# Altium footprint library IVV_Lib.PcbLib: 16 footprints
Each footprint in its own frame and in the unit in brackets; x right, y up, seen from the top. Pads: shape width x height; smd on the part's side, far side on the other; paste and mask are expansions set on the pad; w line width, h text height; cw(c..) or ccw(c..) is an arc to the next point about the centre after c.
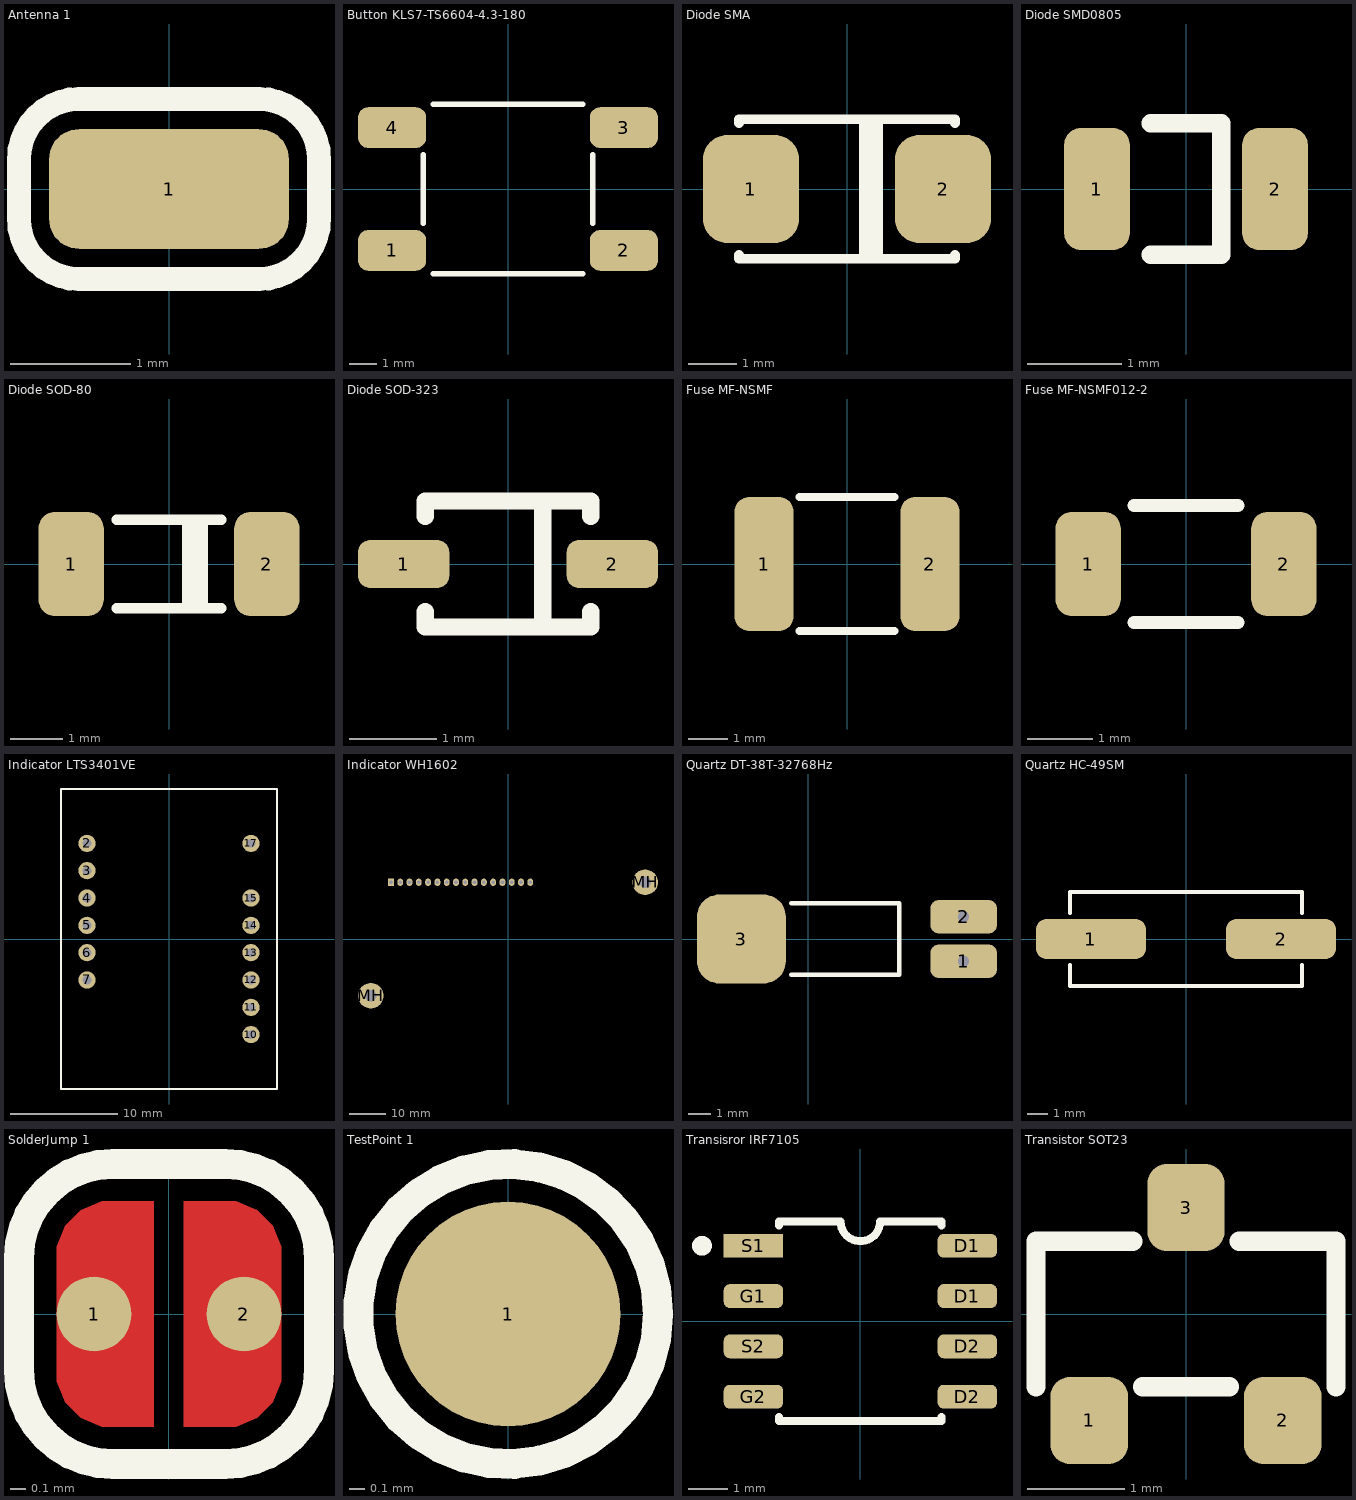
[diagram p0: the footprints below, top view; thin cyan lines are the x and y axes]

## Antenna 1 [mm]
pads (1):
  rrect50% 2x1 smd mask+0.075: 1(0,0)
Top Overlay:
  lines w0.2: -1.25,-0.25 ccw(c-0.75,-0.25) -0.75,-0.75 0.75,-0.75 ccw(c0.75,-0.25) 1.25,-0.25 1.25,0.25 ccw(c0.75,0.25) 0.75,0.75 -0.75,0.75 ccw(c-0.75,0.25) -1.25,0.25 -1.25,-0.25

## Button KLS7-TS6604-4.3-180 [mm]
pads (4):
  rrect50% 2.5x1.5 smd mask+0.075: 1(-4.25,-2.25) 2(4.25,-2.25) 3(4.25,2.25) 4(-4.25,2.25)
Top Overlay:
  lines w0.2: -3.1,-1.25 -3.1,1.25 ; -2.75,-3.1 2.75,-3.1 ; -2.75,3.1 2.75,3.1 ; 3.1,-1.25 3.1,1.25
3D body "PTS645SL43SMTR92-LFS.STEP": height 4.3, standoff 0, extent -4.5,-3 4.5,3

## Diode SMA [mm]
pads (2):
  rrect50% 2x2.25 smd mask+0.075: 1(-2,0) 2(2,0)
Top Overlay:
  rectangle: 0.25,-1.45 0.75,1.45
  lines w0.2: -2.25,-1.375 -2.25,-1.45 2.25,-1.45 2.25,-1.375 ; -2.25,1.375 -2.25,1.45 2.25,1.45 2.25,1.375
3D body "DO-214AC.stp": height 2.9, standoff 0, extent -2.8,-1.475 2.8,1.475

## Diode SMD0805 [mm]
pads (2):
  rrect50% 0.7x1.3 smd mask+0.075: 1(-0.95,0) 2(0.95,0)
Top Overlay:
  lines w0.2: -0.375,-0.7 0.375,-0.7 0.375,0.7 -0.375,0.7
3D body: height 0.25, standoff -3.8, extent -1,2 -1,2
3D body "LED-0805H1.1.stp": height 1.1, standoff 0, extent -1.05,-0.675 1.05,0.675

## Diode SOD-80 [mm]
pads (2):
  rrect50% 1.25x2 smd mask+0.075: 1(-1.875,0) 2(1.875,0)
Top Overlay:
  rectangle: 0.25,-0.85 0.75,0.85
  lines w0.2: -1,-0.85 1,-0.85 ; -1,0.85 1,0.85
3D body "DO-213AA-RED.stp": height 1.6, standoff 0, extent -1.85,-0.787 1.85,0.788

## Diode SOD-323 [mm]
pads (2):
  rrect50% 1.05x0.55 smd mask+0.075: 1(-1.2,0) 2(1.2,0)
Top Overlay:
  lines w0.2: -0.95,-0.55 -0.95,-0.725 0.95,-0.725 0.95,-0.55 ; -0.95,0.55 -0.95,0.725 0.95,0.725 0.95,0.55 ; 0.4,-0.725 0.4,0.725
3D body "SC-76.stp": height 1.1, standoff 0, extent -1.35,-0.725 1.35,0.725

## Fuse MF-NSMF [mm]
pads (2):
  rrect50% 1.5x3.4 smd mask+0.075: 1(-2.1,0) 2(2.1,0)
Top Overlay:
  lines w0.2: -1.2,-1.7 1.2,-1.7 ; -1.2,1.7 1.2,1.7
3D body "MF-MSMF-C0.85.stp": height 0.85, standoff 0, extent -2.365,-1.705 2.365,1.705

## Fuse MF-NSMF012-2 [mm]
pads (2):
  rrect50% 1x1.6 smd mask+0.075: 1(-1.5,0) 2(1.5,0)
Top Overlay:
  lines w0.2: -0.8,-0.9 0.8,-0.9 ; -0.8,0.9 0.8,0.9
3D body "RESC-1206.stp": height 0.65, standoff 0, extent -1.65,-0.85 1.65,0.85

## Indicator LTS3401VE [mm]
pads (13):
  round 1.6 hole 0.8 mask+0.075: 2(-7.62,8.89) 3(-7.62,6.35) 4(-7.62,3.81) 5(-7.62,1.27) 6(-7.62,-1.27) 7(-7.62,-3.81) 10(7.62,-8.89) 11(7.62,-6.35) 12(7.62,-3.81) 13(7.62,-1.27) 14(7.62,1.27) 15(7.62,3.81) 17(7.62,8.89)
Top Overlay:
  lines w0.2: -10.05,-13.945 -10.05,13.945 10.05,13.945 10.05,-13.945 -10.05,-13.945
3D body "LTS3401VE.STEP": height 8.38, standoff -3, extent -9.95,-13.845 9.95,13.845

## Indicator WH1602 [mm]
pads (18):
  rect 1.6x2 hole 1 mask+0.075: 1(-32,15.5)
  oval 1.6x2 hole 1 mask+0.075: 2(-29.46,15.5) 3(-26.92,15.5) 4(-24.38,15.5) 5(-21.84,15.5) 6(-19.3,15.5) 7(-16.76,15.5) 8(-14.22,15.5) 9(-11.68,15.5) 10(-9.14,15.5) 11(-6.6,15.5) 12(-4.06,15.5) 13(-1.52,15.5) 14(1.02,15.5) 15(3.56,15.5) 16(6.1,15.5)
  round 7 hole 3.2 mask+0.075: MH(-37.5,-15.5) MH(37.5,15.5)
3D body "WH1602.STEP": height 16.6, standoff 6, extent -40,-18 40,18

## Quartz DT-38T-32768Hz [mm]
pads (3):
  rrect50% 3x1.5 hole 0.5 mask+0.075: 1(7,-1) 2(7,1)
  rrect50% 4x4 smd mask+0.075: 3(-3,0)
Top Overlay:
  lines w0.2: -0.75,-1.6 4.1,-1.6 4.1,1.6 -0.75,1.6
3D body "DT-38T.STEP": height 3, standoff -2, extent -4,-1.5 7.15,1.5

## Quartz HC-49SM [mm]
pads (2):
  rrect50% 5.5x2 smd mask+0.075: 1(-4.75,0) 2(4.75,0)
Top Overlay:
  lines w0.2: -5.8,-1.3 -5.8,-2.35 5.8,-2.35 5.8,-1.3 ; -5.8,1.3 -5.8,2.35 5.8,2.35 5.8,1.3
3D body "HC-49SM.stp": height 4, standoff 0, extent -6.7,-2.4 6.7,2.4

## SolderJump 1 [mm]
pads (2):
  round 0.5 smd mask+0.075: 1(-0.5,0) 2(0.5,0)
Top Layer:
  region: -0.1,0.75
  region: -0.1,0.75
  region: -0.1,0.75 -0.1,-0.75 -0.375,-0.75 -0.45,-0.75 -0.587,-0.693 -0.693,-0.587 -0.75,-0.45 -0.75,-0.375 -0.75,0.375 -0.75,0.45 -0.693,0.587 -0.587,0.693 -0.45,0.75 -0.375,0.75
  region: 0.1,-0.75 0.1,0.75 0.375,0.75 0.45,0.75 0.587,0.693 0.693,0.587 0.75,0.45 0.75,0.375 0.75,-0.375 0.75,-0.45 0.693,-0.587 0.587,-0.693 0.45,-0.75 0.375,-0.75
Top Overlay:
  lines w0.2: -1,-0.375 ccw(c-0.375,-0.375) -0.375,-1 0.375,-1 ccw(c0.375,-0.375) 1,-0.375 1,0.375 ccw(c0.375,0.375) 0.375,1 -0.375,1 ccw(c-0.375,0.375) -1,0.375 -1,-0.375
Top Solder:
  region: -0.375,0.85 -0.469,0.85 -0.644,0.778 -0.778,0.644 -0.85,0.469 -0.85,0.375 -0.85,-0.375 -0.85,-0.469 -0.778,-0.644 -0.644,-0.778 -0.469,-0.85 -0.375,-0.85 0.375,-0.85 0.469,-0.85 0.644,-0.778 0.778,-0.644 0.85,-0.469 0.85,-0.375 0.85,0.375 0.85,0.469 0.778,0.644 0.644,0.778 0.469,0.85 0.375,0.85

## TestPoint 1 [mm]
pads (1):
  round 1.5 smd mask+0.075: 1(0,0)
Top Overlay:
  circle w0.2: c0,0 r1

## Transisror IRF7105 [mm]
pads (8):
  rrect50% 1.5x0.6 smd mask+0.075: D1(2.7,0.635) D1(2.7,1.905) D2(2.7,-1.905) D2(2.7,-0.635) G1(-2.7,0.635) G2(-2.7,-1.905) S2(-2.7,-0.635)
  rect 1.5x0.6 smd mask+0.075: S1(-2.7,1.905)
Top Overlay:
  circle w0.25: c-4,1.905 r0.125
  lines w0.2: -2.05,-2.42 -2.05,-2.52 2.05,-2.52 2.05,-2.42 ; -2.05,2.42 -2.05,2.52 -0.5,2.52 ccw(c0,2.52) 0.5,2.52 2.05,2.52 2.05,2.42
3D body "MS-012AA.stp": height 1.75, standoff 0, extent -3.1,-2.5 3.1,2.5

## Transistor SOT23 [mm]
pads (3):
  rrect50% 0.8x0.9 smd mask+0.075: 1(-1,-1.1) 2(1,-1.1) 3(0,1.1)
Top Overlay:
  lines w0.2: -1.55,-0.75 -1.55,0.75 -0.55,0.75 ; -0.45,-0.75 0.45,-0.75 ; 0.55,0.75 1.55,0.75 1.55,-0.75
3D body "TO-236AB.stp": height 1.1, standoff 0, extent -1.5,-1.3 1.5,1.3